# Altium footprint library Ale.PcbLib: 181 footprints (part 8 of 12)
Each footprint in its own frame and in the unit in brackets; x right, y up, seen from the top. Pads: shape width x height; smd on the part's side, far side on the other; paste and mask are expansions set on the pad; w line width, h text height; cw(c..) or ccw(c..) is an arc to the next point about the centre after c.
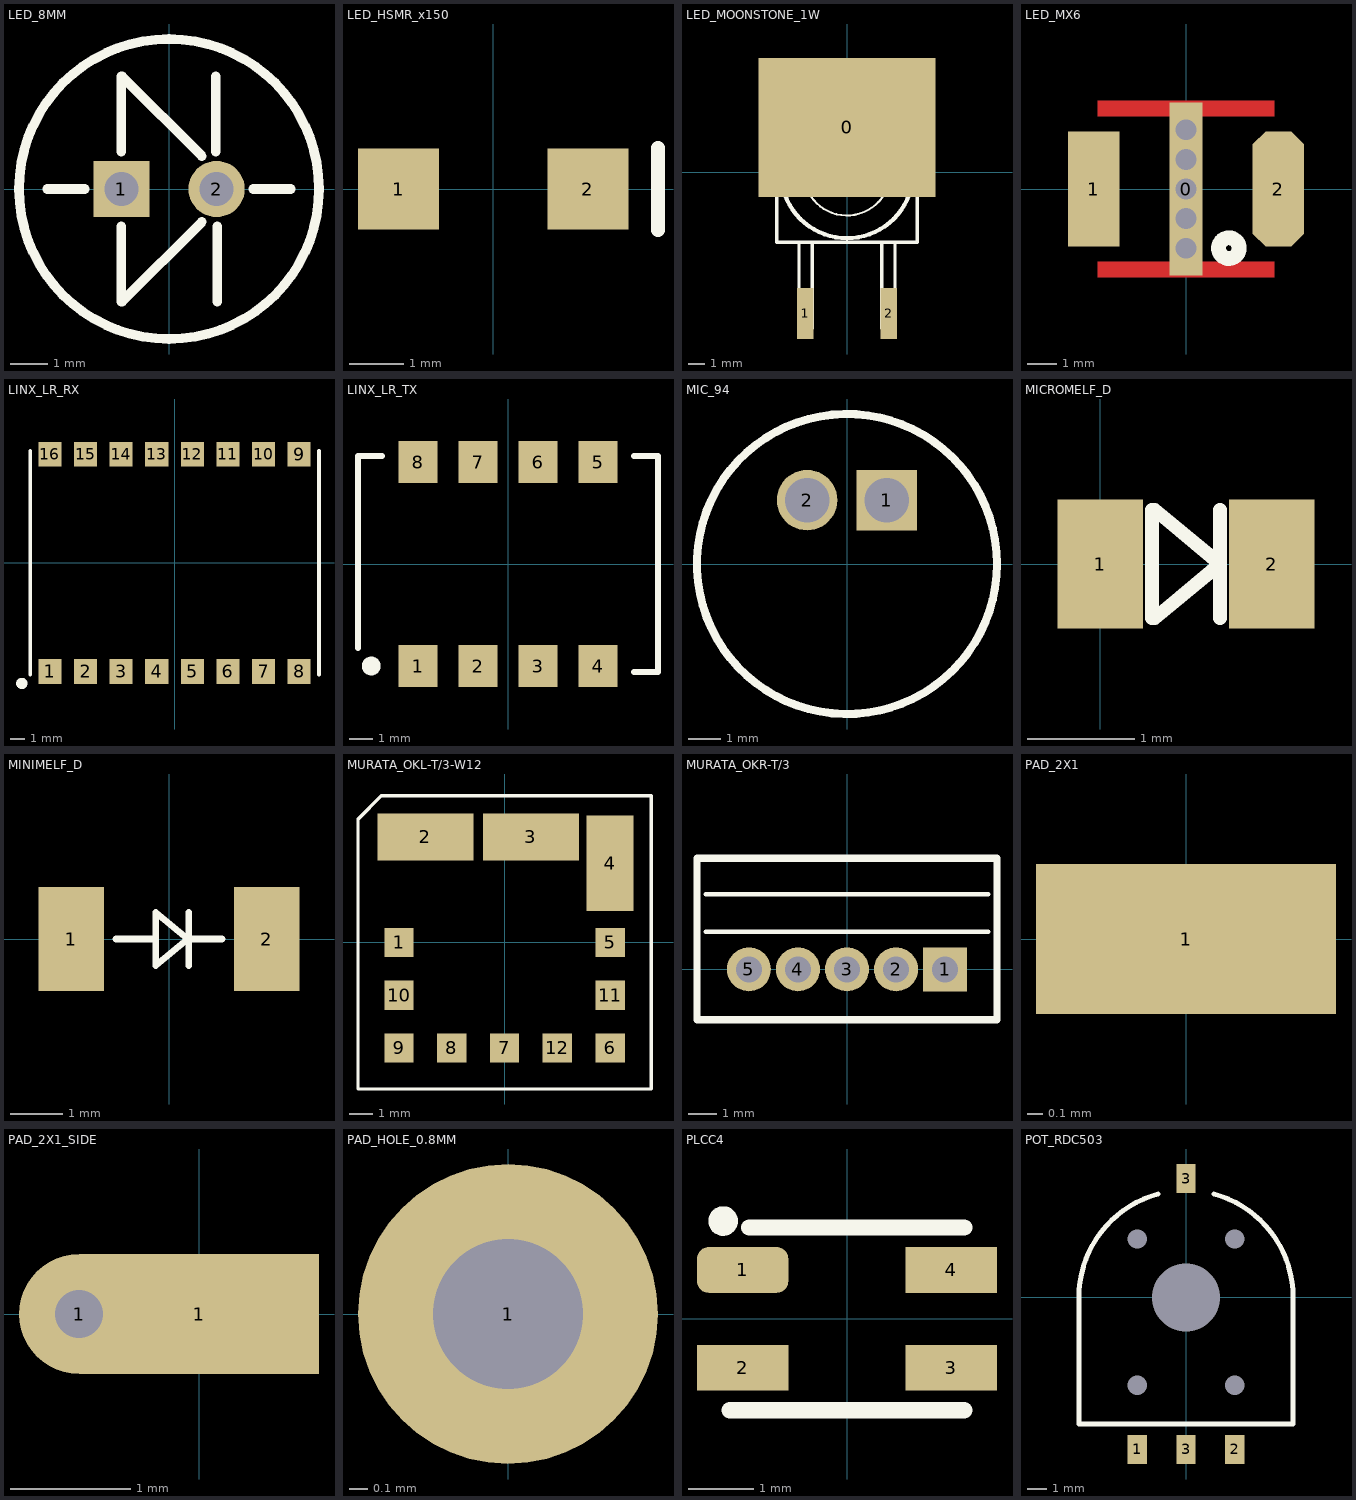
[diagram p7: the footprints below, top view; thin cyan lines are the x and y axes]

## LED_8MM [mm] "8 mm LED, 2.54 mm pitch"
height 11
pads (2):
  rect 1.5x1.5 hole 0.9: 1(-1.27,0)
  round 1.5 hole 0.9: 2(1.27,0)
Top Overlay:
  circle w0.254: c0,0 r4
  lines w0.254: -3.25,0 -2.25,0 ; -1.27,-1 -1.27,-3 -1.25,-3 0.875,-0.875 ; -1.27,1 -1.27,3 -1.25,3 0.875,0.875 ; 1.25,1 1.25,3 ; 1.29,-3 1.29,-1 ; 2.25,0 3.25,0
3D body: height 7, standoff 0, extent -3.992,-3.968 3.992,4
3D body: height 11, standoff 3, extent -3.958,-3.983 4,3.983

## LED_HSMR_x150 [mm] "Avago HSMR x150 LED"
height 1.1
pads (2):
  rect 1.5x1.5 smd: 1(-1.75,0) 2(1.75,0)
Top Overlay:
  lines w0.25: 3.048,-0.762 3.048,0.762
3D body: height 1.1, standoff 0, extent -1.6,-0.8 1.6,0.8

## LED_MOONSTONE_1W [mm] "Avago Moonstone 1 W Power LED"
height 3.3
pads (3):
  rect 10.7x8.4 smd: 0(0,2.7)
  rect 1x3.1 smd: 1(-2.54,-8.55) 2(2.54,-8.55)
Top Overlay:
  circle w0.127: c0,0 r2.63
  circle w0.254: c0,0 r4
  lines w0.2: -3.4,4.25 -3.4,4.95 -5,4.95 -5,5.75 -4.4,6.35 4.4,6.35 4.9,5.85 4.9,5.65 4.9,4.85 3.4,4.85 3.4,4.25 ; -2.9,-4.25 -2.9,-9.45 -2.1,-9.45 -2.1,-4.25 ; 2.1,-4.25 2.1,-9.45 2.9,-9.45 2.9,-4.25 ; -4.25,-4.25 4.25,-4.25 4.25,4.25 -4.25,4.25 -4.25,-4.25
3D body: height 2, standoff 0, extent -4.2,-4.25 4.2,4.25

## LED_MX6 [mm] "Cree XLamp MX-6 LED"
height 1.35
pads (3):
  rect 1.1x5.84 / inner rect 1.1x5.84 / far side rect 5x5.84 all layers, no hole: 0(0,0)
  rect 1.75x3.9 smd: 1(-3.125,0)
  oct 1.75x3.9 smd: 2(3.125,0)
via 0,0 diameter 1 hole 0.7
via 0,1 diameter 1 hole 0.7
via 0,2 diameter 1 hole 0.7
via 0,-1 diameter 1 hole 0.7
via 0,-2 diameter 1 hole 0.7
Top Layer:
  region: 3,-2.45 -3,-2.45 -3,-3 3,-3
  rectangle: -3,2.45 3,3
Top Overlay:
  circle w0.5: c1.45,-2 r0.35
3D body: height 1.35, standoff 0, extent -2.499,-2.499 2.499,2.499

## LINX_LR_RX [mil] "Linx Technologies LR package (RX)"
height 124.8
pads (16):
  rect 65x70 smd: 1(-350,-305.12) 2(-250,-305.12) 3(-150,-305.12) 4(-50,-305.12) 5(50,-305.12) 6(150,-305.12) 7(250,-305.12) 8(350,-305.12) 9(350,305.12) 10(250,305.12) 11(150,305.12) 12(50,305.12) 13(-50,305.12) 14(-150,305.12) 15(-250,305.12) 16(-350,305.12)
Top Overlay:
  circle w15.75: c-429.13,-338.58 r7.87
  lines w9.84: -405.91,-314.96 -405.91,314.96 ; 405.91,-314.96 405.91,314.96
3D body: height 124.8, standoff 0, extent -410.83,-319.88 410.83,319.88

## LINX_LR_TX [mil] "Linx Technologies LR package (TX)"
height 130
pads (8):
  rect 65x70 smd: 1(-150,-170) 2(-50,-170) 3(50,-170) 4(150,-170) 5(150,170) 6(50,170) 7(-50,170) 8(-150,170)
Top Overlay:
  circle w15.75: c-227.87,-170 r7.87
  lines w9.84: -250,-140 -250,180 -210,180 ; 210,-180 250,-180 250,180 210,180
3D body: height 130, standoff 0, extent -250,-180 250,180

## MIC_94 [mm] "PCB microphone, 9.4 mm diameter, 2.5 mm pitch"
height 6.5
pads (2):
  rect 1.9x1.9 hole 1.4: 1(1.25,2)
  round 1.9 hole 1.4: 2(-1.25,2)
Top Overlay:
  circle w0.254: c0,0 r4.7
3D body: height 6.5, standoff 0, extent -4.699,-4.699 4.699,4.699

## MICROMELF_D [mm] "Diode, MicroMELF package"
height 1.2
pads (2):
  rect 0.8x1.2 smd: 1(0,0) 2(1.6,0)
Top Overlay:
  lines w0.127: 0.483,-0.508 0.483,0.508 ; 0.508,-0.508 1.118,0 0.508,0.508 ; 1.118,-0.508 1.118,0.508
3D body: height 1.2, standoff 0, extent -0.2,-0.6 1.8,0.6

## MINIMELF_D [mm] "Diode, MiniMELF package"
height 1.6
pads (2):
  rect 1.25x2 smd: 1(-1.875,0) 2(1.875,0)
Top Overlay:
  lines w0.127: -1.016,0 -0.254,0 ; 0.381,-0.508 0.381,0.508 ; 0.381,0 1.016,0 ; -0.254,-0.508 -0.254,0.508 0.356,0 -0.254,-0.508
3D body: height 1.59, standoff 0, extent -1.82,-0.797 1.88,0.8

## MURATA_OKL-T/3-W12 [mil] "Murata Power OKL-T/3-W12 Series DC/DC converter"
height 244.09
pads (12):
  rect 50x50 smd: 1(-180,0) 5(180,0) 6(180,-180) 7(0,-180) 8(-90,-180) 9(-180,-180) 10(-180,-90) 11(180,-90) 12(90,-180)
  rect 163.39x79.92 smd: 2(-135,180) 3(45,180)
  rect 79.92x163.39 smd: 4(180,135)
Top Overlay:
  lines w5.91: -250,-250 -250,210 -210,250 250,250 250,-250 -250,-250

## MURATA_OKR-T/3 [mil] "MuRata OKR-T/3 converter"
height 649.61
pads (5):
  rect 60x60 hole 35.43: 1(133.86,0)
  round 60 hole 35.43: 2(66.93,0) 3(0,0) 4(-66.93,0) 5(-133.86,0)
Top Overlay:
  lines w5.91: -192.91,51.18 192.91,51.18 ; -192.91,102.36 192.91,102.36
  lines w10: -204.72,-68.9 204.72,-68.9 204.72,151.57 -204.72,151.57 -204.72,-68.9
3D body: height 649.61, standoff 0, extent -204.7,51.2 204.7,102.34
3D body: height 649.61, standoff 0, extent -204.7,-68.88 204.7,151.55

## PAD_2X1 [mm] "2 x 1 mm pad"
pads (1):
  rect 2x1 smd: 1(0,0)

## PAD_2X1_SIDE [mm] "2 x 1 mm pad with side soldering"
pads (2):
  round 1 hole 0.4: 1(-1,0)
  rect 2x1 smd: 1(0,0)

## PAD_HOLE_0.8MM [mm] "Pad with (0.8 mm) hole for wire soldering"
pads (1):
  round 1.6 hole 0.8: 1(0,0)

## PLCC4 [mm] "PLCC4 LED"
height 2
pads (4):
  rrect50% 1.4x0.7 smd: 1(-1.6,0.75)
  rect 1.4x0.7 smd: 2(-1.6,-0.75) 3(1.6,-0.75) 4(1.6,0.75)
Top Overlay:
  circle w0.254: c-1.9,1.5 r0.1
  lines w0.25: -1.8,-1.4 1.8,-1.4 ; -1.5,1.4 1.8,1.4
3D body: height 2, standoff 0, extent -1.8,-1.4 1.8,1.4

## POT_RDC503 [mm] "ALPS RDC503 sensing potentiometer"
height 2.5
pads (9):
  round 0 hole 1: 0(-2.5,-4.5) 0(-2.5,3) 0(2.5,-4.5) 0(2.5,3)
  round 0 hole 3.5: 0(0,0)
  rect 1x1.5 smd: 1(-2.5,-7.8) 2(2.5,-7.8) 3(0,-7.8) 3(0,6.1)
Top Overlay:
  lines w0.254: -1.424,5.313 ccw(c0,0) -5.5,0 -5.5,-6.5 5.5,-6.5 5.5,0 ccw(c0,0) 1.424,5.313
3D body: height 0.8, standoff 0, extent -2.996,2.501 -2,3.499
3D body: height 0.8, standoff 0, extent 2.004,2.501 3,3.499
3D body: height 0.8, standoff 0, extent 2.004,-4.999 3,-4.001
3D body: height 0.8, standoff 0, extent -2.996,-4.999 -2,-4.001
3D body: height 2.5, standoff 0, extent -0.001,-6.501 5.501,5.501
3D body: height 2.5, standoff 0, extent -5.501,-6.501 0.001,5.501